# EAGLE library part USBLC6-2 (library ParanoidStudio)
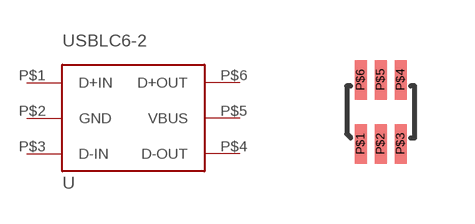
[diagram p1: symbol with the pads of SOT-666; footprint SOT-666]

Designator prefix -

## USBLC6-2  [SOT-666]
P$1  D+IN
P$2  GND
P$3  D-IN
P$4  D-OUT
P$5  VBUS
P$6  D+OUT

## Footprint SOT-666 (pad centres in mm)
smd 0.3 x 0.99: P$1 -0.5,-0.8; P$2 0,-0.8; P$3 0.5,-0.8; P$4 0.5,0.8; P$5 0,0.8; P$6 -0.5,0.8